# Altium footprint library 0306.PcbLib: 1 footprints
Each footprint in its own frame and in the unit in brackets; x right, y up, seen from the top. Pads: shape width x height; smd on the part's side, far side on the other; paste and mask are expansions set on the pad; w line width, h text height; cw(c..) or ccw(c..) is an arc to the next point about the centre after c.
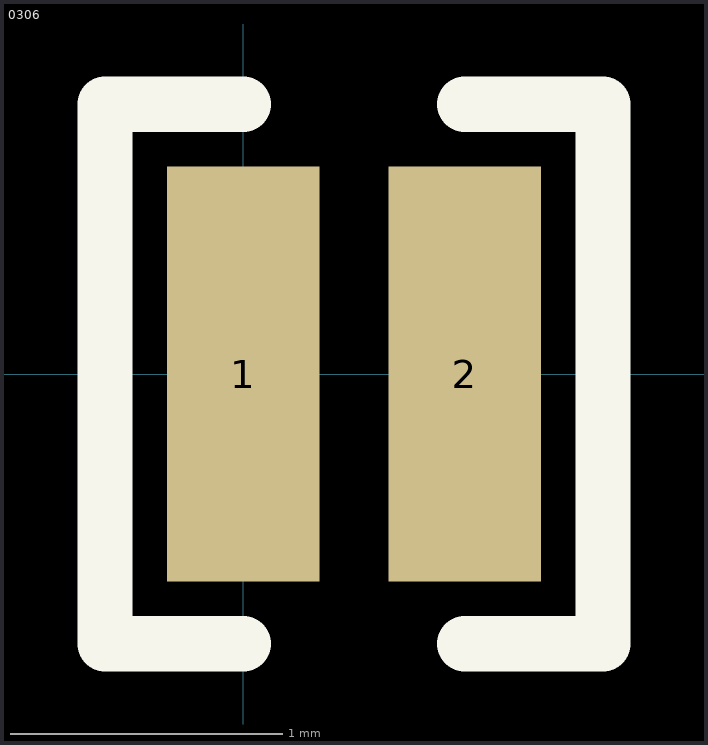
[diagram p0: the footprint, top view; thin cyan lines are the x and y axes]

## 0306 [mil]
height 25
pads (2):
  rect 22x60 smd: 1(0,0) 2(32,0)
TopOverlay:
  lines w8: 0,-39 -20,-39 -20,39 0,39 ; 32,-39 52,-39 52,39 32,39
Mechanical4:
  text "0.0311" at 2,0 h1